# Altium schematic symbol library FM_Receiver.SchLib: 1 symbol
Pins are listed as number, name and electrical type; pins without a type are passive.

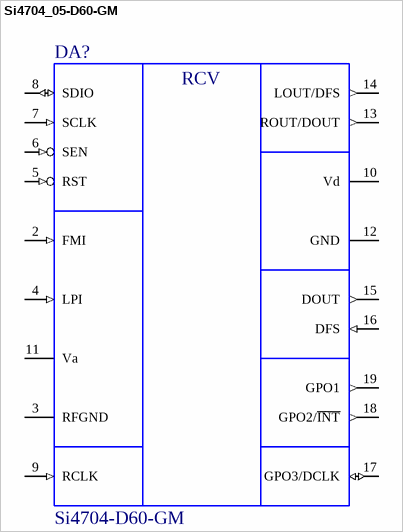
[diagram p0: symbol Si4704_05-D60-GM]

## Si4704_05-D60-GM
designator DA?, comment Si4704-D60-GM
FM Radio Receiver (with RDS/RBDS); ValueSch: Si4704-D60-GM
pins: 1 NC hidden, 2 FMI (in) "FM RF inputs", 3 RFGND (power) "RF ground", 4 LPI (in) "Embedded antenna input", 5 RST (in) "Reset input", 6 SEN (in) "Serial enable input", 7 SCLK (in) "Serial clock input", 8 SDIO (io) "Serial data input/output", 9 RCLK (in) "External reference oscillator input", 10 Vd (power) "Digital and I/O supply voltage", 11 Va (power) "Analog supply voltage", 12 GND (power), 13 ROUT/DOUT (out) "Right audoi line output for alalog output mode", 14 LOUT/DFS (out) "Left audio line output for alalog output mode", 15 DOUT (out) "Digital output data for digital output mode", 16 DFS (in) "Digital frame synchronization input for digital output mode", 17 GPO3/DCLK (io) "general purpose output, crystal oscillator, or digital bit sinchronous clock input in digital output mode", 18 GPO2/~{INT} (out) "general purpose output, or interrupt pin", 19 GPO1 (out) "general purpose output", 20 NC hidden, GND_PAD GND (power) hidden
text: RCV